# EAGLE library part NRF51822_CEAA (library custom)
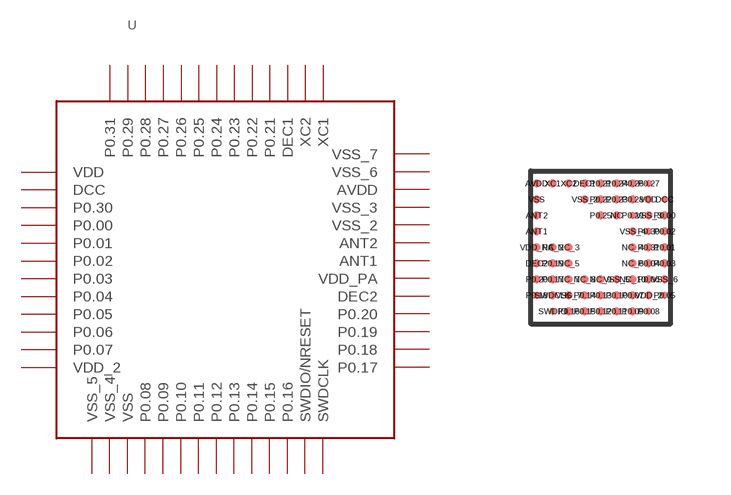
[diagram p13: symbol with the pads of CEAA_WLCSP; footprint CEAA_WLCSP]

Designator prefix U

## NRF51822_CEAA  [CEAA_WLCSP]
ANT1  ANT1
ANT2  ANT2
AVDD  AVDD
DCC  DCC
DEC1  DEC1
DEC2  DEC2
P0.00  P0.00
P0.01  P0.01
P0.02  P0.02
P0.03  P0.03
P0.04  P0.04
P0.05  P0.05
P0.06  P0.06
P0.07  P0.07
P0.08  P0.08
P0.09  P0.09
P0.10  P0.10
P0.11  P0.11
P0.12  P0.12
P0.13  P0.13
P0.14  P0.14
P0.15  P0.15
P0.16  P0.16
P0.17  P0.17
P0.18  P0.18
P0.19  P0.19
P0.20  P0.20
P0.21  P0.21
P0.22  P0.22
P0.23  P0.23
P0.24  P0.24
P0.25  P0.25
P0.26  P0.26
P0.27  P0.27
P0.28  P0.28
P0.29  P0.29
P0.30  P0.30
P0.31  P0.31
SWDCLK  SWDCLK
SWDIO  SWDIO/NRESET
VDD  VDD
VDD_2  VDD_2
VDD_PA  VDD_PA
VSS  VSS
VSS_2  VSS_2
VSS_3  VSS_3
VSS_4  VSS_4
VSS_5  VSS_5
VSS_6  VSS_6
VSS_7  VSS_7
XC1  XC1
XC2  XC2

## Footprint CEAA_WLCSP (pad centres in mm)
smd 0.2 x 0.2: ANT1 0.15,2.315; ANT2 0.15,2.715; AVDD 0.15,3.515; DEC1 1.35,3.515; DEC2 0.15,1.515; NC 2.15,2.715; NC_2 0.55,1.915; NC_3 0.95,1.915; NC_4 2.55,1.915; NC_5 0.95,1.515; NC_6 2.55,1.515; NC_7 0.95,1.115; NC_8 1.35,1.115; NC_9 1.75,1.115; NC_10 2.55,1.115; P0.00 3.35,2.715; P0.01 3.35,1.915; P0.02 3.35,2.315; P0.03 3.35,1.515; P0.04 2.95,1.515; P0.06 2.95,1.115; P0.07 2.55,0.715; P0.09 2.55,0.315; P0.10 2.15,0.715; P0.11 2.15,0.315; P0.12 1.75,0.315; P0.13 1.75,0.715; P0.14 1.35,0.715; P0.15 1.35,0.315; P0.16 0.95,0.315; P0.17 0.55,1.115; P0.19 0.55,1.515; P0.20 0.15,1.115; P0.21 1.75,3.515; P0.22 1.75,3.115; P0.23 2.15,3.115; P0.24 2.15,3.515; P0.25 1.75,2.715; P0.26 2.55,3.515; P0.28 2.55,3.115; P0.31 2.95,1.915; SWDCLK 0.55,0.715; VDD 2.95,3.115; VDD_2 2.95,0.715; VDD_PA 0.15,1.915; VSS 0.15,3.115; VSS_2 1.35,3.115; VSS_3 2.95,2.715; VSS_4 2.55,2.315; VSS_5 2.15,1.115; VSS_6 3.35,1.115; VSS_7 0.95,0.715; XC1 0.55,3.515; XC2 0.95,3.515
smd 0.18 x 0.18: DCC 3.35,3.115; P0.05 3.35,0.715; P0.08 2.95,0.315; P0.18 0.15,0.715; P0.27 2.95,3.515; P0.29 2.55,2.715; P0.30 2.95,2.315; SWDIO 0.55,0.315